# Altium footprint library PcbLib1.PcbLib: 25 footprints (part 2 of 2)
Each footprint in its own frame and in the unit in brackets; x right, y up, seen from the top. Pads: shape width x height; smd on the part's side, far side on the other; paste and mask are expansions set on the pad; w line width, h text height; cw(c..) or ccw(c..) is an arc to the next point about the centre after c.
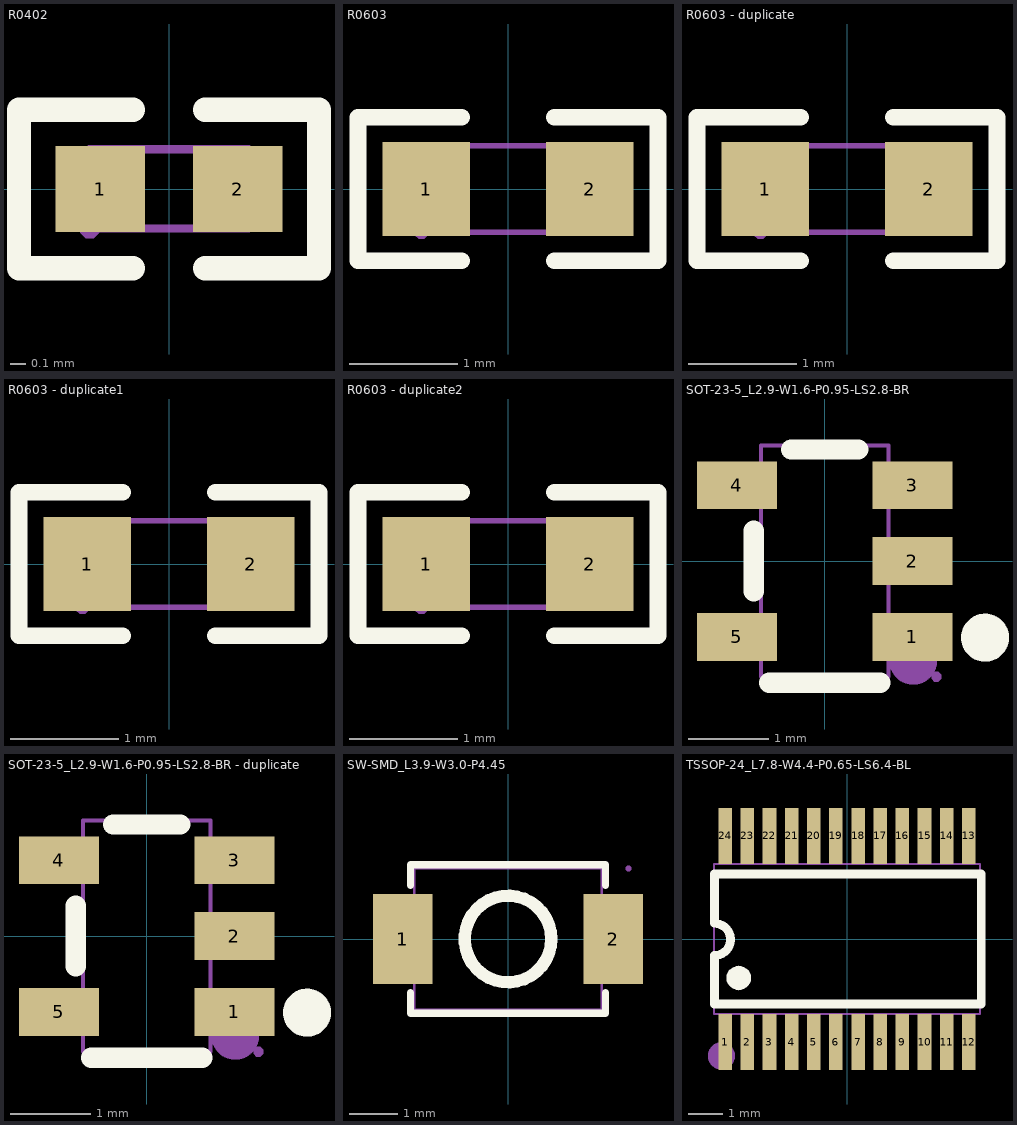
[diagram p1: the footprints below, top view; thin cyan lines are the x and y axes]

## R0402 [mm]
pads (2):
  rect 0.566x0.54 smd paste-100 mask+0.051: 1(-0.433,0) 2(0.433,0)
Top Overlay:
  lines w0.152: -0.226,-0.499 -0.944,-0.499 -0.944,0.499 -0.226,0.499 ; 0.226,-0.499 0.944,-0.499 0.944,0.499 0.226,0.499
Top Paste:
  region: -0.135,-0.23 -0.135,0.23 -0.175,0.27 -0.676,0.27 -0.716,0.23 -0.716,-0.23 -0.676,-0.27 -0.175,-0.27
  region: 0.135,-0.23 0.135,0.23 0.175,0.27 0.676,0.27 0.716,0.23 0.716,-0.23 0.676,-0.27 0.175,-0.27
Mechanical 6:
  lines w0.051: -0.5,-0.25 0.5,-0.25 0.5,0.25 -0.5,0.25 -0.5,-0.25
Mechanical 8:
  region: -0.44,-0.25 -0.44,-0.275 -0.475,-0.31 -0.525,-0.31 -0.56,-0.275 -0.56,-0.25 -0.56,-0.225 -0.525,-0.19 -0.475,-0.19 -0.44,-0.225 -0.44,-0.25
Mechanical 9:
  region: -0.249,0.25 -0.249,-0.25 -0.499,-0.25 -0.499,0.25
  region: 0.251,-0.25 0.251,0.25 0.501,0.25 0.501,-0.25

## R0603 [mm]
pads (2):
  rect 0.806x0.864 smd paste-100 mask+0.051: 1(-0.753,0) 2(0.753,0)
Top Overlay:
  lines w0.152: -0.426,-0.661 -1.385,-0.661 -1.385,0.661 -0.426,0.661 ; 0.426,-0.661 1.385,-0.661 1.385,0.661 0.426,0.661
Top Paste:
  region: 1.195,0.45 0.395,0.45 0.345,0.4 0.345,0.172 0.715,0.172 0.715,-0.158 0.345,-0.158 0.345,-0.4 0.395,-0.45 1.195,-0.45 1.245,-0.4 1.245,0.4
  region: -1.195,-0.45 -0.395,-0.45 -0.345,-0.4 -0.345,-0.172 -0.715,-0.172 -0.715,0.158 -0.345,0.158 -0.345,0.4 -0.395,0.45 -1.195,0.45 -1.245,0.4 -1.245,-0.4
Mechanical 6:
  lines w0.051: -0.8,-0.4 -0.8,0.4 0.8,0.4 0.8,-0.4 -0.8,-0.4
Mechanical 8:
  region: -0.74,-0.4 -0.74,-0.425 -0.775,-0.46 -0.825,-0.46 -0.86,-0.425 -0.86,-0.4 -0.86,-0.375 -0.825,-0.34 -0.775,-0.34 -0.74,-0.375 -0.74,-0.4
Mechanical 9:
  region: -0.8,-0.4 -0.8,0.4 -0.5,0.4 -0.5,-0.4
  region: 0.8,-0.4 0.8,0.4 0.5,0.4 0.5,-0.4

## R0603 - duplicate [mm]
pads (2):
  rect 0.806x0.864 smd paste-100 mask+0.051: 1(-0.753,0) 2(0.753,0)
Top Overlay:
  lines w0.152: -0.426,-0.661 -1.385,-0.661 -1.385,0.661 -0.426,0.661 ; 0.426,-0.661 1.385,-0.661 1.385,0.661 0.426,0.661
Top Paste:
  region: 1.195,0.45 0.395,0.45 0.345,0.4 0.345,0.172 0.715,0.172 0.715,-0.158 0.345,-0.158 0.345,-0.4 0.395,-0.45 1.195,-0.45 1.245,-0.4 1.245,0.4
  region: -1.195,-0.45 -0.395,-0.45 -0.345,-0.4 -0.345,-0.172 -0.715,-0.172 -0.715,0.158 -0.345,0.158 -0.345,0.4 -0.395,0.45 -1.195,0.45 -1.245,0.4 -1.245,-0.4
Mechanical 6:
  lines w0.051: -0.8,-0.4 -0.8,0.4 0.8,0.4 0.8,-0.4 -0.8,-0.4
Mechanical 8:
  region: -0.74,-0.4 -0.74,-0.425 -0.775,-0.46 -0.825,-0.46 -0.86,-0.425 -0.86,-0.4 -0.86,-0.375 -0.825,-0.34 -0.775,-0.34 -0.74,-0.375 -0.74,-0.4
Mechanical 9:
  region: -0.8,-0.4 -0.8,0.4 -0.5,0.4 -0.5,-0.4
  region: 0.8,-0.4 0.8,0.4 0.5,0.4 0.5,-0.4

## R0603 - duplicate1 [mm]
pads (2):
  rect 0.806x0.864 smd paste-100 mask+0.051: 1(-0.753,0) 2(0.753,0)
Top Overlay:
  lines w0.152: -0.426,-0.661 -1.385,-0.661 -1.385,0.661 -0.426,0.661 ; 0.426,-0.661 1.385,-0.661 1.385,0.661 0.426,0.661
Top Paste:
  region: -1.195,-0.45 -0.395,-0.45 -0.345,-0.4 -0.345,-0.172 -0.715,-0.172 -0.715,0.158 -0.345,0.158 -0.345,0.4 -0.395,0.45 -1.195,0.45 -1.245,0.4 -1.245,-0.4
  region: 1.195,0.45 0.395,0.45 0.345,0.4 0.345,0.172 0.715,0.172 0.715,-0.158 0.345,-0.158 0.345,-0.4 0.395,-0.45 1.195,-0.45 1.245,-0.4 1.245,0.4
Mechanical 6:
  lines w0.051: -0.8,-0.4 0.8,-0.4 0.8,0.4 -0.8,0.4 -0.8,-0.4
Mechanical 8:
  region: -0.74,-0.4 -0.74,-0.425 -0.775,-0.46 -0.825,-0.46 -0.86,-0.425 -0.86,-0.4 -0.86,-0.375 -0.825,-0.34 -0.775,-0.34 -0.74,-0.375 -0.74,-0.4
Mechanical 9:
  region: 0.8,-0.4 0.8,0.4 0.5,0.4 0.5,-0.4
  region: -0.8,-0.4 -0.8,0.4 -0.5,0.4 -0.5,-0.4

## R0603 - duplicate2 [mm]
pads (2):
  rect 0.806x0.864 smd paste-100 mask+0.051: 1(-0.753,0) 2(0.753,0)
Top Overlay:
  lines w0.152: -0.426,-0.661 -1.385,-0.661 -1.385,0.661 -0.426,0.661 ; 0.426,-0.661 1.385,-0.661 1.385,0.661 0.426,0.661
Top Paste:
  region: 1.195,0.45 0.395,0.45 0.345,0.4 0.345,0.172 0.715,0.172 0.715,-0.158 0.345,-0.158 0.345,-0.4 0.395,-0.45 1.195,-0.45 1.245,-0.4 1.245,0.4
  region: -1.195,-0.45 -0.395,-0.45 -0.345,-0.4 -0.345,-0.172 -0.715,-0.172 -0.715,0.158 -0.345,0.158 -0.345,0.4 -0.395,0.45 -1.195,0.45 -1.245,0.4 -1.245,-0.4
Mechanical 6:
  lines w0.051: -0.8,-0.4 -0.8,0.4 0.8,0.4 0.8,-0.4 -0.8,-0.4
Mechanical 8:
  region: -0.74,-0.4 -0.74,-0.425 -0.775,-0.46 -0.825,-0.46 -0.86,-0.425 -0.86,-0.4 -0.86,-0.375 -0.825,-0.34 -0.775,-0.34 -0.74,-0.375 -0.74,-0.4
Mechanical 9:
  region: -0.8,-0.4 -0.8,0.4 -0.5,0.4 -0.5,-0.4
  region: 0.8,-0.4 0.8,0.4 0.5,0.4 0.5,-0.4

## SOT-23-5_L2.9-W1.6-P0.95-LS2.8-BR [mm]
pads (5):
  rect 1x0.6 smd paste+0 mask+0.05: 1(1.1,-0.95) 2(1.1,0) 3(1.1,0.95) 4(-1.1,0.95) 5(-1.1,-0.95)
Top Overlay:
  circle w0.3: c2.01,-0.96 r0.15
  lines w0.254: -0.889,-0.381 -0.889,0.381 ; -0.699,-1.524 0.698,-1.524 ; -0.422,1.397 0.422,1.397
Mechanical 2:
  circle w0.3: c1.11,-1.25 r0.15
Mechanical 6:
  lines w0.051: -0.8,-1.45 0.8,-1.45 0.8,1.45 -0.8,1.45 -0.8,-1.45
Mechanical 7:
  region: -0.79,-1.15 -0.96,-1.15 -0.96,-0.75 -0.79,-0.75
  region: -0.79,0.75 -0.96,0.75 -0.96,1.15 -0.79,1.15
  region: 0.96,-1.15 0.79,-1.15 0.79,-0.75 0.96,-0.75
  region: 0.96,0.75 0.79,0.75 0.79,1.15 0.96,1.15
  region: 0.96,-0.2 0.79,-0.2 0.79,0.2 0.96,0.2
Mechanical 8:
  region: 1.46,-1.45 1.46,-1.475 1.425,-1.51 1.375,-1.51 1.34,-1.475 1.34,-1.45 1.34,-1.425 1.375,-1.39 1.425,-1.39 1.46,-1.425 1.46,-1.45
Mechanical 9:
  region: -0.95,-1.15 -1.4,-1.15 -1.4,-0.75 -0.95,-0.75
  region: -0.95,0.75 -1.4,0.75 -1.4,1.15 -0.95,1.15
  region: 1.4,-1.15 0.95,-1.15 0.95,-0.75 1.4,-0.75
  region: 1.4,0.75 0.95,0.75 0.95,1.15 1.4,1.15
  region: 1.4,-0.2 0.95,-0.2 0.95,0.2 1.4,0.2

## SOT-23-5_L2.9-W1.6-P0.95-LS2.8-BR - duplicate [mm]
pads (5):
  rect 1x0.6 smd paste+0 mask+0.05: 1(1.1,-0.95) 2(1.1,0) 3(1.1,0.95) 4(-1.1,0.95) 5(-1.1,-0.95)
Top Overlay:
  circle w0.3: c2.01,-0.96 r0.15
  lines w0.254: -0.889,-0.381 -0.889,0.381 ; -0.699,-1.524 0.698,-1.524 ; -0.422,1.397 0.422,1.397
Mechanical 2:
  circle w0.3: c1.11,-1.25 r0.15
Mechanical 6:
  lines w0.051: -0.8,-1.45 0.8,-1.45 0.8,1.45 -0.8,1.45 -0.8,-1.45
Mechanical 7:
  region: -0.79,-1.15 -0.96,-1.15 -0.96,-0.75 -0.79,-0.75
  region: -0.79,0.75 -0.96,0.75 -0.96,1.15 -0.79,1.15
  region: 0.96,-1.15 0.79,-1.15 0.79,-0.75 0.96,-0.75
  region: 0.96,0.75 0.79,0.75 0.79,1.15 0.96,1.15
  region: 0.96,-0.2 0.79,-0.2 0.79,0.2 0.96,0.2
Mechanical 8:
  region: 1.46,-1.45 1.46,-1.475 1.425,-1.51 1.375,-1.51 1.34,-1.475 1.34,-1.45 1.34,-1.425 1.375,-1.39 1.425,-1.39 1.46,-1.425 1.46,-1.45
Mechanical 9:
  region: -0.95,-1.15 -1.4,-1.15 -1.4,-0.75 -0.95,-0.75
  region: -0.95,0.75 -1.4,0.75 -1.4,1.15 -0.95,1.15
  region: 1.4,-1.15 0.95,-1.15 0.95,-0.75 1.4,-0.75
  region: 1.4,0.75 0.95,0.75 0.95,1.15 1.4,1.15
  region: 1.4,-0.2 0.95,-0.2 0.95,0.2 1.4,0.2

## SW-SMD_L3.9-W3.0-P4.45 [mm]
pads (2):
  rect 1.23x1.86 smd: 1(-2.185,0) 2(2.185,0)
Top Overlay:
  circle w0.254: c0,0 r0.9
  lines w0.152: -2.026,-1.11 -2.026,-1.541 2.026,-1.541 2.026,-1.11 ; -2.026,1.11 -2.026,1.541 2.026,1.541 2.026,1.11
Mechanical 6:
  lines w0.051: -1.95,-1.465 -1.95,1.465 1.95,1.465 1.95,-1.465 -1.95,-1.465
Mechanical 8:
  region: 2.56,1.465 2.56,1.44 2.525,1.405 2.475,1.405 2.44,1.44 2.44,1.465 2.44,1.49 2.475,1.525 2.525,1.525 2.56,1.49 2.56,1.465
Mechanical 9:
  region: -2.5,0.65 -2.5,-0.65 -1.6,-0.65 -1.6,0.65
  region: 2.5,0.65 2.5,-0.65 1.6,-0.65 1.6,0.65

## TSSOP-24_L7.8-W4.4-P0.65-LS6.4-BL [mm]
pads (24):
  rect 0.4x1.65 smd: 1(-3.575,-3.023) 2(-2.925,-3.023) 3(-2.275,-3.023) 4(-1.625,-3.023) 5(-0.975,-3.023) 6(-0.325,-3.023) 7(0.325,-3.023) 8(0.975,-3.023) 9(1.625,-3.023) 10(2.275,-3.023) 11(2.925,-3.023) 12(3.575,-3.023) 13(3.575,3.023) 14(2.925,3.023) 15(2.275,3.023) 16(1.625,3.023) 17(0.975,3.023) 18(0.325,3.023) 19(-0.325,3.023) 20(-0.975,3.023) 21(-1.625,3.023) 22(-2.275,3.023) 23(-2.925,3.023) 24(-3.575,3.023)
Top Overlay:
  region: -3.529,-1.143 -3.52,-1.064 -3.494,-0.989 -3.452,-0.922 -3.396,-0.866 -3.329,-0.824 -3.254,-0.798 -3.175,-0.789 -3.096,-0.798 -3.021,-0.824 -2.954,-0.866 -2.898,-0.922 -2.856,-0.989 -2.83,-1.064 -2.821,-1.143 -2.83,-1.222 -2.856,-1.297 -2.898,-1.364 -2.954,-1.42 -3.021,-1.462 -3.096,-1.488 -3.175,-1.497 -3.254,-1.488 -3.329,-1.462 -3.396,-1.42 -3.452,-1.364 -3.494,-1.297 -3.52,-1.222
  lines w0.254: -3.886,0.457 cw(c-3.886,-0.013) -3.886,-0.483 -3.886,-1.753 -3.886,-1.905 3.937,-1.905 3.937,1.905 -3.886,1.905 -3.886,1.753 -3.886,0.483
Mechanical 2:
  circle w0.4: c-3.683,-3.429 r0.2
Mechanical 6:
  lines w0.051: -3.9,-2.2 3.9,-2.2 3.9,2.2 -3.9,2.2 -3.9,-2.2
Mechanical 7:
  region: -0.425,-2.588 -0.225,-2.588 -0.225,-2.188 -0.425,-2.188
  region: -1.075,-2.588 -0.875,-2.588 -0.875,-2.188 -1.075,-2.188
  region: -1.725,-2.588 -1.525,-2.588 -1.525,-2.188 -1.725,-2.188
  region: -2.375,-2.588 -2.175,-2.588 -2.175,-2.188 -2.375,-2.188
  region: -3.025,-2.588 -2.825,-2.588 -2.825,-2.188 -3.025,-2.188
  region: -3.675,-2.588 -3.475,-2.588 -3.475,-2.188 -3.675,-2.188
  region: 3.475,-2.588 3.675,-2.588 3.675,-2.188 3.475,-2.188
  region: 2.825,-2.588 3.025,-2.588 3.025,-2.188 2.825,-2.188
  region: 2.175,-2.588 2.375,-2.588 2.375,-2.188 2.175,-2.188
  region: 1.525,-2.588 1.725,-2.588 1.725,-2.188 1.525,-2.188
  region: 0.875,-2.588 1.075,-2.588 1.075,-2.188 0.875,-2.188
  region: 0.225,-2.588 0.425,-2.588 0.425,-2.188 0.225,-2.188
  region: 0.425,2.588 0.225,2.588 0.225,2.188 0.425,2.188
  region: 1.075,2.588 0.875,2.588 0.875,2.188 1.075,2.188
  region: 1.725,2.588 1.525,2.588 1.525,2.188 1.725,2.188
  region: 2.375,2.588 2.175,2.588 2.175,2.188 2.375,2.188
  region: 3.025,2.588 2.825,2.588 2.825,2.188 3.025,2.188
  region: 3.675,2.588 3.475,2.588 3.475,2.188 3.675,2.188
  region: -3.475,2.588 -3.675,2.588 -3.675,2.188 -3.475,2.188
  region: -2.825,2.588 -3.025,2.588 -3.025,2.188 -2.825,2.188
  region: -2.175,2.588 -2.375,2.588 -2.375,2.188 -2.175,2.188
  region: -1.525,2.588 -1.725,2.588 -1.725,2.188 -1.525,2.188
  region: -0.875,2.588 -1.075,2.588 -1.075,2.188 -0.875,2.188
  region: -0.225,2.588 -0.425,2.588 -0.425,2.188 -0.225,2.188
Mechanical 8:
  region: -3.84,-3.186 -3.84,-3.211 -3.875,-3.246 -3.925,-3.246 -3.96,-3.211 -3.96,-3.186 -3.96,-3.161 -3.925,-3.126 -3.875,-3.126 -3.84,-3.161 -3.84,-3.186
Mechanical 9:
  region: -0.425,-2.586 -0.225,-2.586 -0.225,-3.186 -0.425,-3.186
  region: -1.075,-2.586 -0.875,-2.586 -0.875,-3.186 -1.075,-3.186
  region: -1.725,-2.586 -1.525,-2.586 -1.525,-3.186 -1.725,-3.186
  region: -2.375,-2.586 -2.175,-2.586 -2.175,-3.186 -2.375,-3.186
  region: -3.025,-2.586 -2.825,-2.586 -2.825,-3.186 -3.025,-3.186
  region: -3.675,-2.586 -3.475,-2.586 -3.475,-3.186 -3.675,-3.186
  region: 3.475,-2.586 3.675,-2.586 3.675,-3.186 3.475,-3.186
  region: 2.825,-2.586 3.025,-2.586 3.025,-3.186 2.825,-3.186
  region: 2.175,-2.586 2.375,-2.586 2.375,-3.186 2.175,-3.186
  region: 1.525,-2.586 1.725,-2.586 1.725,-3.186 1.525,-3.186
  region: 0.875,-2.586 1.075,-2.586 1.075,-3.186 0.875,-3.186
  region: 0.225,-2.586 0.425,-2.586 0.425,-3.186 0.225,-3.186
  region: 0.425,2.586 0.225,2.586 0.225,3.186 0.425,3.186
  region: 1.075,2.586 0.875,2.586 0.875,3.186 1.075,3.186
  region: 1.725,2.586 1.525,2.586 1.525,3.186 1.725,3.186
  region: 2.375,2.586 2.175,2.586 2.175,3.186 2.375,3.186
  region: 3.025,2.586 2.825,2.586 2.825,3.186 3.025,3.186
  region: 3.675,2.586 3.475,2.586 3.475,3.186 3.675,3.186
  region: -3.475,2.586 -3.675,2.586 -3.675,3.186 -3.475,3.186
  region: -2.825,2.586 -3.025,2.586 -3.025,3.186 -2.825,3.186
  region: -2.175,2.586 -2.375,2.586 -2.375,3.186 -2.175,3.186
  region: -1.525,2.586 -1.725,2.586 -1.725,3.186 -1.525,3.186
  region: -0.875,2.586 -1.075,2.586 -1.075,3.186 -0.875,3.186
  region: -0.225,2.586 -0.425,2.586 -0.425,3.186 -0.225,3.186